# EAGLE library part ACTGLOBAL-POWERSUPPLY-BUTTONS (library act-global-nolan)
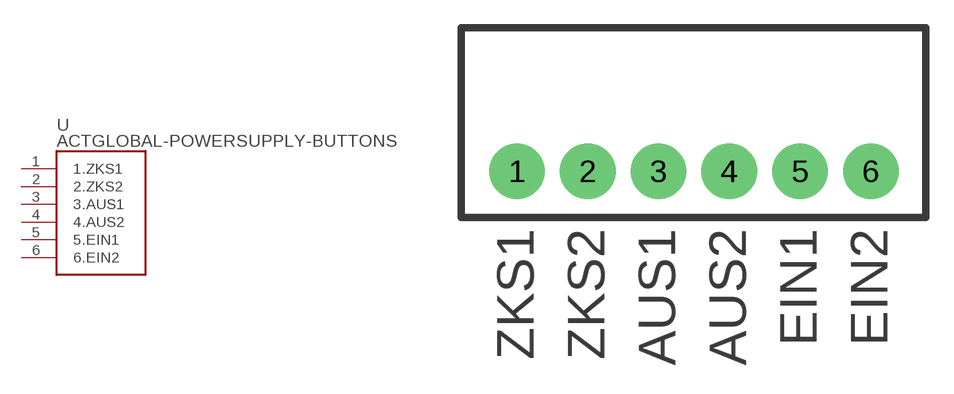
[diagram p30: symbol with the pads of ACTGLOBAL_POWERSUPPLYBUTTONS; footprint ACTGLOBAL_POWERSUPPLYBUTTONS]

Designator prefix -

## ACTGLOBAL-POWERSUPPLY-BUTTONS  [ACTGLOBAL_POWERSUPPLYBUTTONS]
1  1.ZKS1
2  2.ZKS2
3  3.AUS1
4  4.AUS2
5  5.EIN1
6  6.EIN2

## Footprint ACTGLOBAL_POWERSUPPLYBUTTONS (pad centres in mm)
drill 2: 1 0,0; 2 3.81,0; 3 7.62,0; 4 11.43,0; 5 15.24,0; 6 19.05,0